# Altium schematic symbol library Schlib3.SchLib: 1 symbol
Pins are listed as number, name and electrical type; pins without a type are passive.

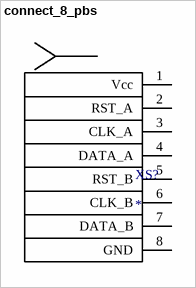
[diagram p0: symbol connect_8_pbs]

## connect_8_pbs
designator XS?
footprint PBS_8 (2X11-2.0)
footprint PBS_8 (2X11-2.0)
pins: 1 Vcc, 2 RST_A, 3 CLK_A, 4 DATA_A, 5 RST_B, 6 CLK_B, 7 DATA_B, 8 GND